# Altium schematic symbol library 最小系统元件库.SchLib: 9 symbols
Pins are listed as number, name and electrical type; pins without a type are passive.

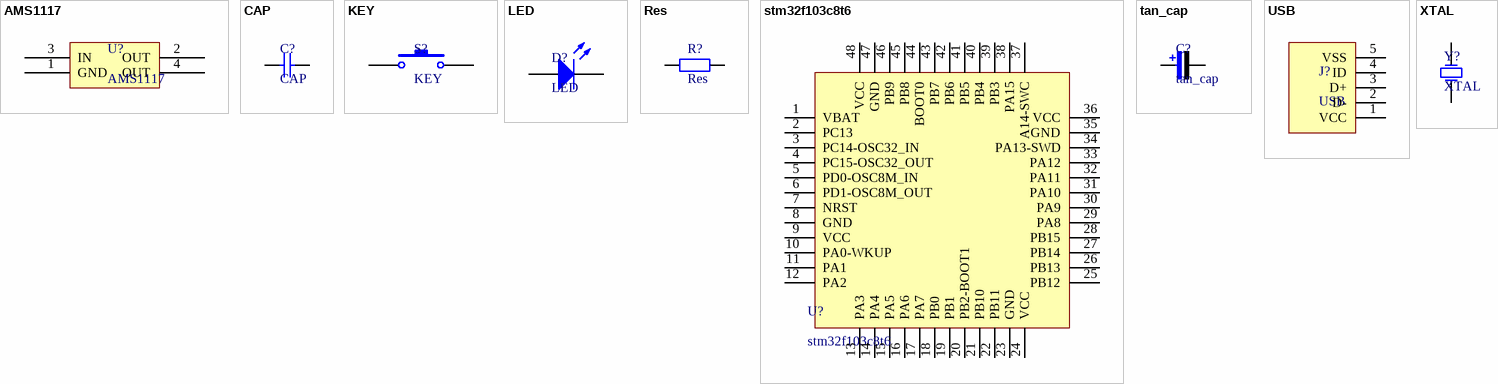
[diagram p0: symbols AMS1117 to XTAL]

## AMS1117
designator U?
footprint AMS1117
pins: 1 GND, 2 OUT, 3 IN, 4 OUT

## CAP
designator C?
footprint 0805cap
pins: 1, 2

## KEY
designator S?
footprint key-paster (贴片按键)
pins: 1, 2

## LED
designator D?
footprint 0805LED
pins: 1 A, 2 K

## Res
designator R?
footprint 0805Res
pins: 1, 2

## stm32f103c8t6
designator U?
footprint stm32f103c8t6 (QFP, 100-Leads, Body 14.00x20.00mm, Pitch 0.65mm, IPC Medium Density)
pins: 1 VBAT, 2 PC13, 3 PC14-OSC32_IN, 4 PC15-OSC32_OUT, 5 PD0-OSC8M_IN, 6 PD1-OSC8M_OUT, 7 NRST, 8 GND, 9 VCC, 10 PA0-WKUP, 11 PA1, 12 PA2, 13 PA3, 14 PA4, 15 PA5, 16 PA6, 17 PA7, 18 PB0, 19 PB1, 20 PB2-BOOT1, 21 PB10, 22 PB11, 23 GND, 24 VCC, 25 PB12, 26 PB13, 27 PB14, 28 PB15, 29 PA8, 30 PA9, 31 PA10, 32 PA11, 33 PA12, 34 PA13-SWD, 35 GND, 36 VCC, 37 A14-SWC, 38 PA15, 39 PB3, 40 PB4, 41 PB5, 42 PB6, 43 PB7, 44 BOOT0, 45 PB8, 46 PB9, 47 GND, 48 VCC

## tan_cap
designator C?
footprint tan_cap_C
pins: 1, 2

## USB
designator J?
footprint micro_USB
pins: 1 VCC, 2 D-, 3 D+, 4 ID, 5 VSS

## XTAL
designator Y?
footprint XTAL-8M-column (直插式8M晶振)
footprint 8M小型贴片晶振
footprint 32K贴片晶振
footprint XTAL_NX5032
pins: 1 OSC1, 2 OSC2